# Altium footprint library 10 Pin Connector.PcbLib: 1 footprints
Each footprint in its own frame and in the unit in brackets; x right, y up, seen from the top. Pads: shape width x height; smd on the part's side, far side on the other; paste and mask are expansions set on the pad; w line width, h text height; cw(c..) or ccw(c..) is an arc to the next point about the centre after c.
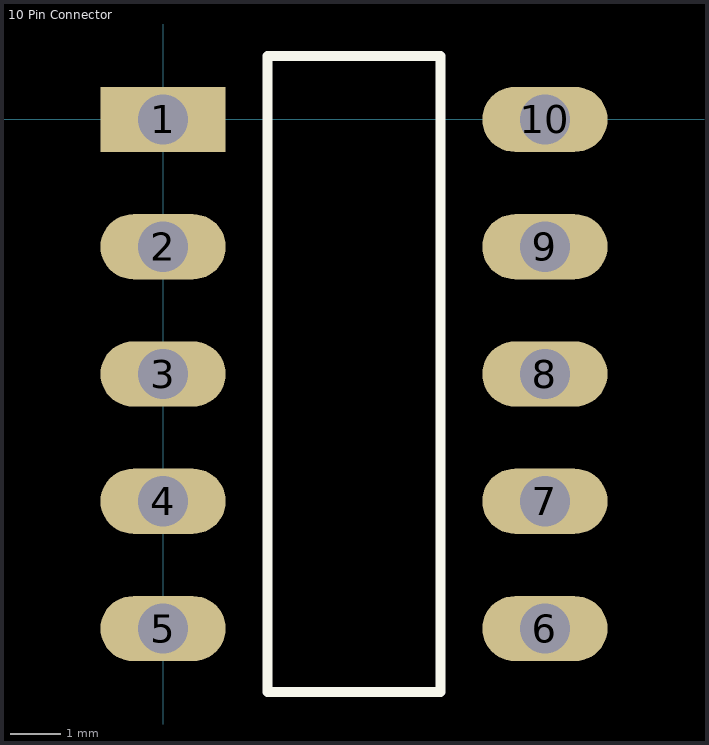
[diagram p0: the footprint, top view; thin cyan lines are the x and y axes]

## 10 Pin Connector [mm]
height 8
pads (10):
  rect 2.5x1.3 hole 1: 1(0,0)
  oval 2.5x1.3 hole 1: 2(0,-2.54) 3(0,-5.08) 4(0,-7.62) 5(0,-10.16) 6(7.62,-10.16) 7(7.62,-7.62) 8(7.62,-5.08) 9(7.62,-2.54) 10(7.62,0)
Top Overlay:
  lines w0.2: 2.085,-11.43 5.535,-11.43 5.535,1.27 3.81,1.27 2.085,1.27 2.085,-11.43
3D body "User Library-Header 5X2.STEP": height 9.93, standoff -1.77, extent 1.143,-12.188 6.223,1.012